# Altium integrated library Unitree_HW_LIB.IntLib: 3 symbols
Pins are listed as number, name and electrical type; pins without a type are passive.

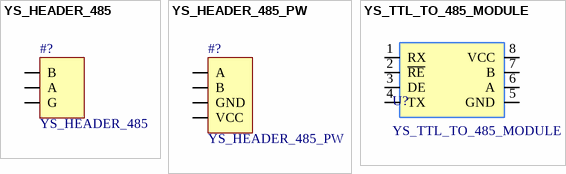
[diagram p0: symbols YS_HEADER_485 to YS_TTL_TO_485_MODULE]

## YS_HEADER_485
designator #?
GH1.25_3P，板对线连接器，(注意：非标线序，仅适用于Unitree产品); LatestRevisionDate: 17-Jul-2002; LatestRevisionNote: Re-released for DXP Platform.; Publisher: Altium Limited
footprint GH_1.25_3P 卧贴
footprint GH_1.25_3P 立贴
pins: 1 B, 2 A, 3 G

## YS_HEADER_485_PW
designator #?
XT30(2+2)电源+485，板对线连接器，(注意：非标线序，仅适用于Unitree产品); LatestRevisionDate: 17-Jul-2002; LatestRevisionNote: Re-released for DXP Platform.; Publisher: Altium Limited
footprint XT30PB(2+2)-M 卧式半孔
footprint XT30PB(2+2)-M 立式
footprint XT30PW(2+2)-M 卧式
pins: 1 A, 2 B, 3 GND, 4 VCC

## YS_TTL_TO_485_MODULE
designator U?
15KV ESD,10Mbps,直插TTL转485模块
footprint YS_TTL_TO_485_MODULE
pins: 1 RX, 2 ~{RE}, 3 DE, 4 TX, 5 GND, 6 A, 7 B, 8 VCC